# Altium schematic symbol library MOSFET.SchLib: 8 symbols
Pins are listed as number, name and electrical type; pins without a type are passive.

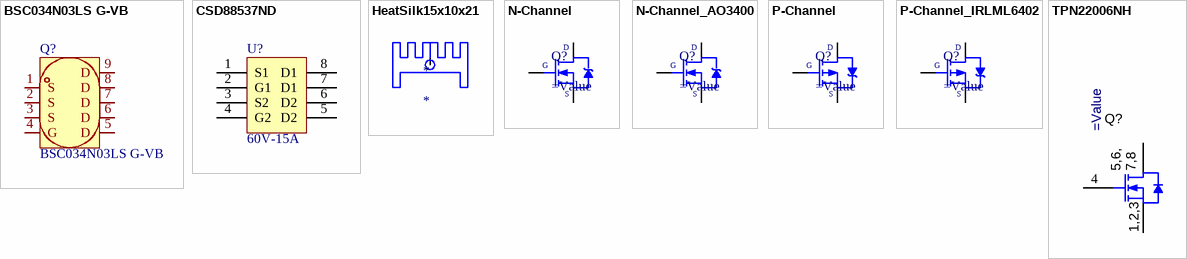
[diagram p0: symbols BSC034N03LS G-VB to TPN22006NH]

## BSC034N03LS G-VB
designator Q?
30V 33A 3.75W 1.8mΩ@10V 2V 1 N-channel DFN-8(5x6) MOSFETs ROHS; Manufacturer: VBsemi(微碧半导体); Add into BOM: yes; Input Capacitance (Ciss@Vds): 9900pF@15V; Symbol: BSC034N03LS G-VB; Device: BSC034N03LS G-VB; LCSC Part Name: 1个N沟道 耐压:30V; Supplier Part: C7568740; Manufacturer Part: BSC034N03LS G-VB; Supplier Footprint: DFN-8(5x6); JLCPCB Part Class: Extended Part; Datasheet: https://atta.szlcsc.com/upload/public/pdf/source/20240814/ED7ED7B2B757827EB0AB34100690B752.pdf; Supplier: LCSC; Convert to PCB: yes; Type: 1 N-channel; Drain Source On Resistance (RDS(on)@Vgs,Id): 1.8mΩ@10V; Gate Threshold Voltage (Vgs(th)@Id): 2V
pins: 1 S, 2 S, 3 S, 4 G, 5 D, 6 D, 7 D, 8 D, 9 D

## CSD88537ND
designator U?, comment 60V-15A
=Description; Partnumber: CSD88537ND; Manufacture: Texas Instruments; Link sale: #https://www.digikey.com/product-detail/en/texas-instruments/CSD88537ND/296-37303-1-ND/4747947#; Pricing (USD): 1.22; Value: 60V-15A; Creator: Tunn; Category: Resistor; Mounting type: Surface Mount; Supplier: Digikey; Detailed Value: 60V-15A
footprint SOIC-8
pins: 1 S1, 2 G1, 3 S2, 4 G2, 5 D2, 6 D2, 7 D1, 8 D1

## HeatSilk15x10x21
designator *
pins: 0

## N-Channel
designator Q?
=Description
pins: 1 G, 2 D, 3 S

## N-Channel_AO3400
designator Q?
=Description
pins: 1 G, 2 S, 3 D

## P-Channel
designator Q?
=Description
pins: 1 G, 2 D, 3 S

## P-Channel_IRLML6402
designator Q?
=Description
pins: 1 G, 2 S, 3 D

## TPN22006NH
designator Q?
=Description; Manufacturer 1: Texas Instruments; Manufacturer Part Number 1: CSD18534Q5A; Rise Time: 5.5ns; Continuous Drain Current (ID): 50A; Fall Time: 2ns; Gate to Source Voltage (Vgs): 20V; Turn-Off Delay Time: 15ns; Turn-On Delay Time: 5.2ns; Element Configuration: Single; Rds On Max: 9.8mR; Input Capacitance: 1.77nF; Drain to Source Voltage (Vdss): 60V; Max Power Dissipation: 3.1W; Drain to Source Resistance: 9.9mR; Number of Elements: 1; Threshold Voltage: 1.9V; ComponentLink1Description: Datasheet link; ComponentLink1URL: http://focus.ti.com/lit/ds/symlink/csd16323q3.pdf; Supplier 1: Digi-Key; Supplier Part Number 1: 296-35583-1-ND; RoHS: Yes; Category: MOSFETs; Stock 1: 119413; Pricing 1: 1=1.05000, 10=0.94200, 100=0.67050, 500=0.56836, 1000=0.46299 (USD); Mount: Surface Mount; Number of Pins: 8; Contact Plating: Tin,Matte; Min Operating Temperature: -55°C; Max Operating Temperature: 150°C; Packaging: Tape and Reel; Package Quantity: 1; Drain to Source Breakdown Voltage: 60V; Power Dissipation: 3.1W; Nominal Vgs: 1.9V; Length: 5.8mm; Height: 1.1mm; Width: 5mm; Radiation Hardening: No; Lead Free: Contains Lead; REACH SVHC: No SVHC; ComponentLink2URL: https://datasheet.ciiva.com/6376/csd18534q5a-6376034.pdf?src-supplier=Digi-Key; ComponentLink2Description: https://datasheet.ciiva.com/6376/csd18534q5a-6376034.pdf?src-supplier=Digi-Key; ComponentLink3URL: https://datasheet.ciiva.com/7968/1682185-7968226.pdf?src-supplier=Element14; ComponentLink3Description: https://datasheet.ciiva.com/7968/1682185-7968226.pdf?src-supplier=Element14; ComponentLink4URL: https://datasheet.ciiva.com/14423/csd18534q5a-14423451.pdf?src-supplier=Avnet; ComponentLink4Description: https://datasheet.ciiva.com/14423/csd18534q5a-14423451.pdf?src-supplier=Avnet; ComponentLink5URL: https://datasheet.ciiva.com/26128/csd18534q5a-26128358.pdf?src-supplier=Avnet+Europe; ComponentLink5Description: https://datasheet.ciiva.com/26128/csd18534q5a-26128358.pdf?src-supplier=Avnet+Europe; ComponentLink6URL: https://datasheet.ciiva.com/14423/csd18534q5a-14423450.pdf?src-supplier=Avnet; ComponentLink6Description: https://datasheet.ciiva.com/14423/csd18534q5a-14423450.pdf?src-supplier=Avnet
simulation model CSD16323Q3
footprint 8-TSON_FIXED (SON  3.30-mm × 3.30-mm  Plastic Package)
pins: 1 S, 2 S, 3 S, 4 G, 5 D, 6 D, 7 D, 8 D
text: 5,6,; 7,8; 1,2,3